# Altium footprint library PCB - LEADED - ADI-R-8_L.PCBLIB: 1 footprints
Each footprint in its own frame and in the unit in brackets; x right, y up, seen from the top. Pads: shape width x height; smd on the part's side, far side on the other; paste and mask are expansions set on the pad; w line width, h text height; cw(c..) or ccw(c..) is an arc to the next point about the centre after c.
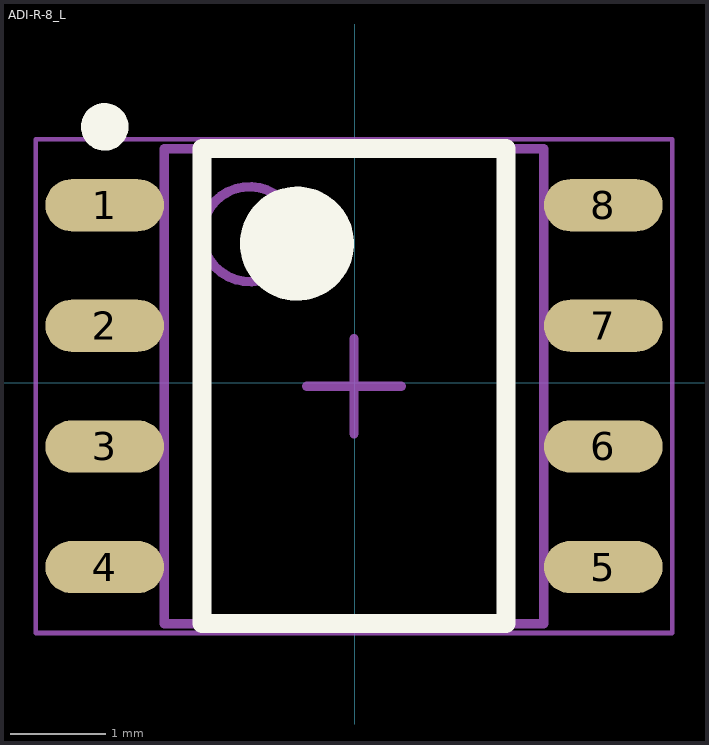
[diagram p0: the footprint, top view; thin cyan lines are the x and y axes]

## ADI-R-8_L [mm]
height 0.6
pads (8):
  oval 1.25x0.55 smd: 1(-2.631,1.869) 2(-2.631,0.599) 3(-2.631,-0.671) 4(-2.631,-1.941) 5(2.619,-1.941) 6(2.619,-0.671) 7(2.619,0.599) 8(2.619,1.869)
Top Overlay:
  circle w0.25: c-2.631,2.694 r0.125
  circle w0.6: c-0.606,1.464 r0.3
  lines w0.2: -1.606,-2.536 -1.606,2.464 1.594,2.464 1.594,-2.536 -1.606,-2.536
Top Assembly:
  circle w0.1: c-1.106,1.564 r0.5
  lines w0.1: -2.006,-2.536 -2.006,2.464 1.994,2.464 1.994,-2.536 -2.006,-2.536
Top Courtyard:
  lines w0.05: -3.356,-2.636 -3.356,2.564 3.344,2.564 3.344,-2.636 -3.356,-2.636
Top Designator:
  text ".Designator" at -3.2,3.2 h1
Top Component Center:
  lines w0.1: -0.506,-0.036 0.494,-0.036 ; -0.006,-0.536 -0.006,0.464
3D body "SOIC127P600X175-8L.step": height 1.75, standoff 0, extent -3.006,-2.536 2.994,2.464